# EAGLE library part 614004135023 (library USB3IO)
WR-COM Vertical USB Type A=>Code : Con_I-O_COM_USB-2.0_A_614004135023 <http://katalog.we-online.de/media/images/eican/Con_I-O_COM_USB-2.0_A_614004135023_pf2.jpg> Details see: http://katalog.we-online.de/en/em/614_004_135_023 Created 2014-07-09, Karrer Zheng 2014 (C) Würth Elektronik
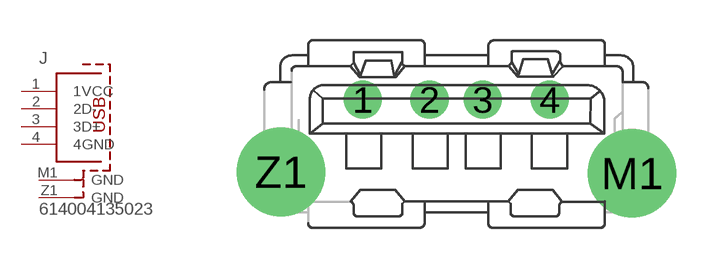
[diagram p158: symbol with the pads of 614004135023; footprint 614004135023]

Designator prefix J

## 614004135023  [614004135023]
1  1VCC
2  2D-
3  3D+
4  4GND
M1  GND
Z1  GND

## Footprint 614004135023 (pad centres in mm)
WR-COM Vertical USB Type A
drill 0.92: 1 -3.5,2.71; 2 -1,2.71; 3 1,2.71; 4 3.5,2.71
drill 2.3: M1 6.59,-0.05; Z1 -6.57,0